# EAGLE library part INA181 (library IntegratedLib)
Sensor de Corrente Amplificador (SOT-23-6)
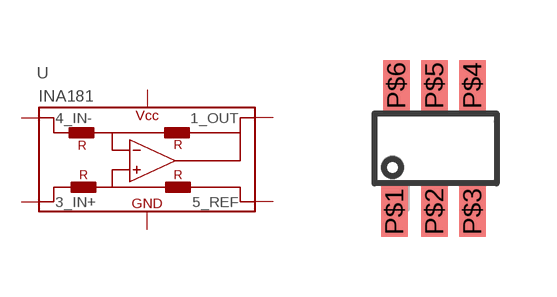
[diagram p27: symbol with the pads of SOT-23-6; footprint SOT-23-6]

Designator prefix U

## INA181 (FABRICANTE: TEXAS INSTRUMENTS; PARTNUMBER: INA181; TIPO: CIRCUITO INTEGRADO)  [SOT-23-6]
P$1  1_OUT
P$2  2_GND
P$3  3_IN+
P$4  4_IN-
P$5  5_REF
P$6  6_VS

## Footprint SOT-23-6 (pad centres in mm)
smd 0.66 x 1.27: P$1 -1,-1.6; P$2 0,-1.6; P$3 0.95,-1.6; P$4 0.95,1.55; P$5 0,1.55; P$6 -0.95,1.55